# Altium schematic symbol library polar capacitor.Schlib: 1 symbol
Pins are listed as number, name and electrical type; pins without a type are passive.

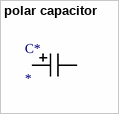
[diagram p0: symbol polar capacitor]

## polar capacitor
designator C*
Value: 10uF
pins: 1, 2